# Altium footprint library PART_NUMBER-STD.PcbLib: 1 footprints
Each footprint in its own frame and in the unit in brackets; x right, y up, seen from the top. Pads: shape width x height; smd on the part's side, far side on the other; paste and mask are expansions set on the pad; w line width, h text height; cw(c..) or ccw(c..) is an arc to the next point about the centre after c.
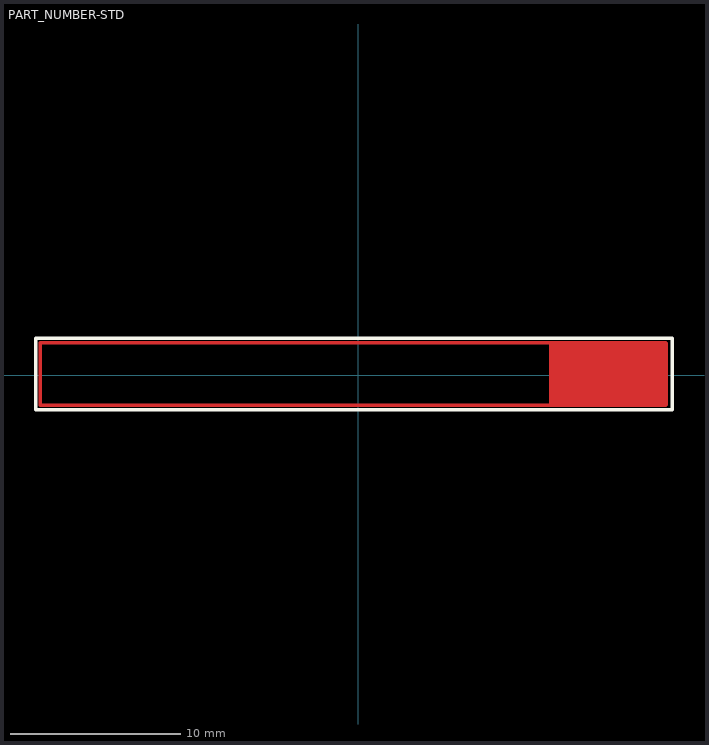
[diagram p0: the footprint, top view; thin cyan lines are the x and y axes]

## PART_NUMBER-STD [mm]
Top Layer:
  rectangle: 11.176,-1.778 18.161,1.905
  lines w0.2: 18.034,-1.778 -18.669,-1.778 -18.669,1.905 18.034,1.905
  text ".BoardPartNumber" at -18.161,-0.889 h3
Top Overlay:
  lines w0.2: -18.923,-2.032 -18.923,2.159 18.415,2.159 18.415,-2.032 -18.923,-2.032
  text ".BoardPartNumber" at -18.161,-0.889 h3
Top Solder:
  rectangle: 11.049,-1.905 18.288,2.032